# Altium schematic symbol library WE-PD2SA.SchLib: 20 symbols
Pins are listed as number, name and electrical type; pins without a type are passive.

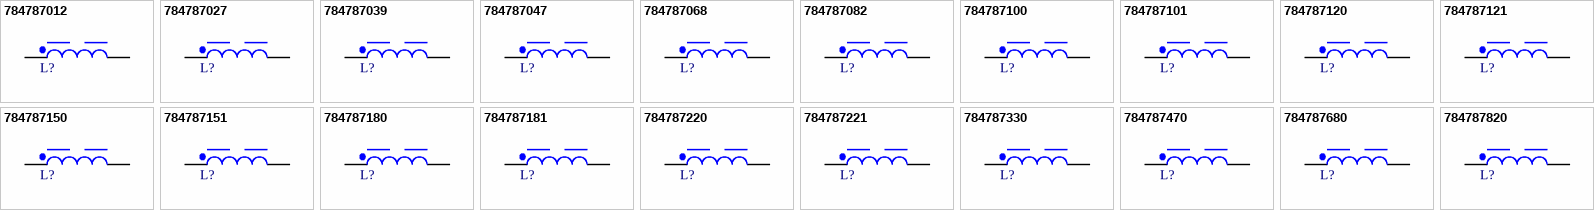
[diagram p0: symbols 784787012 to 784787820]

## 784787012
designator L?, comment 1.2µH  (value not drawn)
WE-PD2SA SMT Power Inductor, size 7850, 1.2µH, 4.85A, 13mΩ; Manufacturer Part Number: 784787012; Manufacturer: Wurth Elektronik; Case/Size Code: 7850; DC Resistance: 8.5mΩ; Saturation Current: 6A; Self Resonant Frequency: 110MHz; Category: Single Coil Power Inductors; Match Code: WE-PD2SA; ComponentLink1Description: Website Link; ComponentLink1URL: https://www.we-online.com/redexpert/article/784787012?ad; ComponentLink2Description: Datasheet Link; ComponentLink2URL: https://www.we-online.com/redexpert/spec/784787012?ad; Mount: Surface Mount; Operating Temperature Max: 150°C; Operating Temperature Min: -50°C; Packaging: Tape and Reel; Length: 7.8mm; Width: 7mm; Height: 5mm; Automotive: Yes; DC Resistance Max: 13mΩ; Inductance: 1.2µH; Rated Current: 4.85A
footprint WE-PD2SA_7850
simulation model 7850_784787012_1.2u
pins: 1, 2

## 784787027
designator L?, comment 2.7µH  (value not drawn)
WE-PD2SA SMT Power Inductor, size 7850, 2.7µH, 4.35A, 17mΩ; Manufacturer Part Number: 784787027; Manufacturer: Wurth Elektronik; Case/Size Code: 7850; DC Resistance: 13.5mΩ; Saturation Current: 4.5A; Self Resonant Frequency: 60MHz; Category: Single Coil Power Inductors; Match Code: WE-PD2SA; ComponentLink1Description: Website Link; ComponentLink1URL: https://www.we-online.com/redexpert/article/784787027?ad; ComponentLink2Description: Datasheet Link; ComponentLink2URL: https://www.we-online.com/redexpert/spec/784787027?ad; Mount: Surface Mount; Operating Temperature Max: 150°C; Operating Temperature Min: -50°C; Packaging: Tape and Reel; Length: 7.8mm; Width: 7mm; Height: 5mm; Automotive: Yes; DC Resistance Max: 17mΩ; Inductance: 2.7µH; Rated Current: 4.35A
footprint WE-PD2SA_7850
simulation model 7850_784787027_2.7u
pins: 1, 2

## 784787039
designator L?, comment 3.9µH  (value not drawn)
WE-PD2SA SMT Power Inductor, size 7850, 3.9µH, 3.8A, 20mΩ; Manufacturer Part Number: 784787039; Manufacturer: Wurth Elektronik; Case/Size Code: 7850; DC Resistance: 16.7mΩ; Saturation Current: 4A; Self Resonant Frequency: 45MHz; Category: Single Coil Power Inductors; Match Code: WE-PD2SA; ComponentLink1Description: Website Link; ComponentLink1URL: https://www.we-online.com/redexpert/article/784787039?ad; ComponentLink2Description: Datasheet Link; ComponentLink2URL: https://www.we-online.com/redexpert/spec/784787039?ad; Mount: Surface Mount; Operating Temperature Max: 150°C; Operating Temperature Min: -50°C; Packaging: Tape and Reel; Length: 7.8mm; Width: 7mm; Height: 5mm; Automotive: Yes; DC Resistance Max: 20mΩ; Inductance: 3.9µH; Rated Current: 3.8A
footprint WE-PD2SA_7850
simulation model 7850_784787039_3.9u
pins: 1, 2

## 784787047
designator L?, comment 4.7µH  (value not drawn)
WE-PD2SA SMT Power Inductor, size 7850, 4.7µH, 3.3A, 29mΩ; Manufacturer Part Number: 784787047; Manufacturer: Wurth Elektronik; Case/Size Code: 7850; DC Resistance: 24.3mΩ; Saturation Current: 3.6A; Self Resonant Frequency: 42MHz; Category: Single Coil Power Inductors; Match Code: WE-PD2SA; ComponentLink1Description: Website Link; ComponentLink1URL: https://www.we-online.com/redexpert/article/784787047?ad; ComponentLink2Description: Datasheet Link; ComponentLink2URL: https://www.we-online.com/redexpert/spec/784787047?ad; Mount: Surface Mount; Operating Temperature Max: 150°C; Operating Temperature Min: -50°C; Packaging: Tape and Reel; Length: 7.8mm; Width: 7mm; Height: 5mm; Automotive: Yes; DC Resistance Max: 29mΩ; Inductance: 4.7µH; Rated Current: 3.3A
footprint WE-PD2SA_7850
simulation model 7850_784787047_4.7u
pins: 1, 2

## 784787068
designator L?, comment 6.8µH  (value not drawn)
WE-PD2SA SMT Power Inductor, size 7850, 6.8µH, 3A, 33mΩ; Manufacturer Part Number: 784787068; Manufacturer: Wurth Elektronik; Case/Size Code: 7850; DC Resistance: 27mΩ; Self Resonant Frequency: 30MHz; Category: Single Coil Power Inductors; Match Code: WE-PD2SA; ComponentLink1Description: Website Link; ComponentLink1URL: https://www.we-online.com/redexpert/article/784787068?ad; ComponentLink2Description: Datasheet Link; ComponentLink2URL: https://www.we-online.com/redexpert/spec/784787068?ad; Mount: Surface Mount; Operating Temperature Max: 150°C; Operating Temperature Min: -50°C; Packaging: Tape and Reel; Length: 7.8mm; Width: 7mm; Height: 5mm; Automotive: Yes; DC Resistance Max: 33mΩ; Inductance: 6.8µH; Rated Current: 3A; Saturation Current: 3A
footprint WE-PD2SA_7850
simulation model 7850_784787068_6.8u
pins: 1, 2

## 784787082
designator L?, comment 8.2µH  (value not drawn)
WE-PD2SA SMT Power Inductor, size 7850, 8.2µH, 2.7A, 39mΩ; Manufacturer Part Number: 784787082; Manufacturer: Wurth Elektronik; Case/Size Code: 7850; DC Resistance: 33mΩ; Saturation Current: 2.8A; Self Resonant Frequency: 28MHz; Category: Single Coil Power Inductors; Match Code: WE-PD2SA; ComponentLink1Description: Website Link; ComponentLink1URL: https://www.we-online.com/redexpert/article/784787082?ad; ComponentLink2Description: Datasheet Link; ComponentLink2URL: https://www.we-online.com/redexpert/spec/784787082?ad; Mount: Surface Mount; Operating Temperature Max: 150°C; Operating Temperature Min: -50°C; Packaging: Tape and Reel; Length: 7.8mm; Width: 7mm; Height: 5mm; Automotive: Yes; DC Resistance Max: 39mΩ; Inductance: 8.2µH; Rated Current: 2.7A
footprint WE-PD2SA_7850
simulation model 7850_784787082_8.2u
pins: 1, 2

## 784787100
designator L?, comment 10µH  (value not drawn)
WE-PD2SA SMT Power Inductor, size 7850, 10µH, 2.6A, 43mΩ; Manufacturer Part Number: 784787100; Manufacturer: Wurth Elektronik; Case/Size Code: 7850; DC Resistance: 36.5mΩ; Self Resonant Frequency: 24MHz; Category: Single Coil Power Inductors; Match Code: WE-PD2SA; ComponentLink1Description: Website Link; ComponentLink1URL: https://www.we-online.com/redexpert/article/784787100?ad; ComponentLink2Description: Datasheet Link; ComponentLink2URL: https://www.we-online.com/redexpert/spec/784787100?ad; Mount: Surface Mount; Operating Temperature Max: 150°C; Operating Temperature Min: -50°C; Packaging: Tape and Reel; Length: 7.8mm; Width: 7mm; Height: 5mm; Automotive: Yes; DC Resistance Max: 43mΩ; Inductance: 10µH; Rated Current: 2.6A; Saturation Current: 2.6A
footprint WE-PD2SA_7850
simulation model 7850_784787100_10u
pins: 1, 2

## 784787101
designator L?, comment 100µH  (value not drawn)
WE-PD2SA SMT Power Inductor, size 7850, 100µH, 0.95A, 467mΩ; Manufacturer Part Number: 784787101; Manufacturer: Wurth Elektronik; Case/Size Code: 7850; DC Resistance: 396mΩ; Saturation Current: 0.87A; Self Resonant Frequency: 5MHz; Category: Single Coil Power Inductors; Match Code: WE-PD2SA; ComponentLink1Description: Website Link; ComponentLink1URL: https://www.we-online.com/redexpert/article/784787101?ad; ComponentLink2Description: Datasheet Link; ComponentLink2URL: https://www.we-online.com/redexpert/spec/784787101?ad; Mount: Surface Mount; Operating Temperature Max: 150°C; Operating Temperature Min: -50°C; Packaging: Tape and Reel; Length: 7.8mm; Width: 7mm; Height: 5mm; Automotive: Yes; DC Resistance Max: 467mΩ; Inductance: 100µH; Rated Current: 0.95A
footprint WE-PD2SA_7850
simulation model 7850_784787101_100u
pins: 1, 2

## 784787120
designator L?, comment 12µH  (value not drawn)
WE-PD2SA SMT Power Inductor, size 7850, 12µH, 2.45A, 52mΩ; Manufacturer Part Number: 784787120; Manufacturer: Wurth Elektronik; Case/Size Code: 7850; DC Resistance: 45mΩ; Saturation Current: 2.4A; Self Resonant Frequency: 20MHz; Category: Single Coil Power Inductors; Match Code: WE-PD2SA; ComponentLink1Description: Website Link; ComponentLink1URL: https://www.we-online.com/redexpert/article/784787120?ad; ComponentLink2Description: Datasheet Link; ComponentLink2URL: https://www.we-online.com/redexpert/spec/784787120?ad; Mount: Surface Mount; Operating Temperature Max: 150°C; Operating Temperature Min: -50°C; Packaging: Tape and Reel; Length: 7.8mm; Width: 7mm; Height: 5mm; Automotive: Yes; DC Resistance Max: 52mΩ; Inductance: 12µH; Rated Current: 2.45A
footprint WE-PD2SA_7850
simulation model 7850_784787120_12u
pins: 1, 2

## 784787121
designator L?, comment 120µH  (value not drawn)
WE-PD2SA SMT Power Inductor, size 7850, 120µH, 0.73A, 643mΩ; Manufacturer Part Number: 784787121; Manufacturer: Wurth Elektronik; Case/Size Code: 7850; DC Resistance: 545mΩ; Saturation Current: 0.8A; Self Resonant Frequency: 4.5MHz; Category: Single Coil Power Inductors; Match Code: WE-PD2SA; ComponentLink1Description: Website Link; ComponentLink1URL: https://www.we-online.com/redexpert/article/784787121?ad; ComponentLink2Description: Datasheet Link; ComponentLink2URL: https://www.we-online.com/redexpert/spec/784787121?ad; Mount: Surface Mount; Operating Temperature Max: 150°C; Operating Temperature Min: -50°C; Packaging: Tape and Reel; Length: 7.8mm; Width: 7mm; Height: 5mm; Automotive: Yes; DC Resistance Max: 643mΩ; Inductance: 120µH; Rated Current: 0.73A
footprint WE-PD2SA_7850
simulation model 7850_784787121_120u
pins: 1, 2

## 784787150
designator L?, comment 15µH  (value not drawn)
WE-PD2SA SMT Power Inductor, size 7850, 15µH, 2.3A, 60mΩ; Manufacturer Part Number: 784787150; Manufacturer: Wurth Elektronik; Case/Size Code: 7850; DC Resistance: 52mΩ; Saturation Current: 2.1A; Self Resonant Frequency: 18MHz; Category: Single Coil Power Inductors; Match Code: WE-PD2SA; ComponentLink1Description: Website Link; ComponentLink1URL: https://www.we-online.com/redexpert/article/784787150?ad; ComponentLink2Description: Datasheet Link; ComponentLink2URL: https://www.we-online.com/redexpert/spec/784787150?ad; Mount: Surface Mount; Operating Temperature Max: 150°C; Operating Temperature Min: -50°C; Packaging: Tape and Reel; Length: 7.8mm; Width: 7mm; Height: 5mm; Automotive: Yes; DC Resistance Max: 60mΩ; Inductance: 15µH; Rated Current: 2.3A
footprint WE-PD2SA_7850
simulation model 7850_784787150_15u
pins: 1, 2

## 784787151
designator L?, comment 150µH  (value not drawn)
WE-PD2SA SMT Power Inductor, size 7850, 150µH, 0.71A, 719mΩ; Manufacturer Part Number: 784787151; Manufacturer: Wurth Elektronik; Case/Size Code: 7850; DC Resistance: 610mΩ; Saturation Current: 0.7A; Self Resonant Frequency: 4MHz; Category: Single Coil Power Inductors; Match Code: WE-PD2SA; ComponentLink1Description: Website Link; ComponentLink1URL: https://www.we-online.com/redexpert/article/784787151?ad; ComponentLink2Description: Datasheet Link; ComponentLink2URL: https://www.we-online.com/redexpert/spec/784787151?ad; Mount: Surface Mount; Operating Temperature Max: 150°C; Operating Temperature Min: -50°C; Packaging: Tape and Reel; Length: 7.8mm; Width: 7mm; Height: 5mm; Automotive: Yes; DC Resistance Max: 719mΩ; Inductance: 150µH; Rated Current: 0.71A
footprint WE-PD2SA_7850
simulation model 7850_784787151_150u
pins: 1, 2

## 784787180
designator L?, comment 18µH  (value not drawn)
WE-PD2SA SMT Power Inductor, size 7850, 18µH, 2.15A, 78mΩ; Manufacturer Part Number: 784787180; Manufacturer: Wurth Elektronik; Case/Size Code: 7850; DC Resistance: 67mΩ; Saturation Current: 1.9A; Self Resonant Frequency: 15MHz; Category: Single Coil Power Inductors; Match Code: WE-PD2SA; ComponentLink1Description: Website Link; ComponentLink1URL: https://www.we-online.com/redexpert/article/784787180?ad; ComponentLink2Description: Datasheet Link; ComponentLink2URL: https://www.we-online.com/redexpert/spec/784787180?ad; Mount: Surface Mount; Operating Temperature Max: 150°C; Operating Temperature Min: -50°C; Packaging: Tape and Reel; Length: 7.8mm; Width: 7mm; Height: 5mm; Automotive: Yes; DC Resistance Max: 78mΩ; Inductance: 18µH; Rated Current: 2.15A
footprint WE-PD2SA_7850
simulation model 7850_784787180_18u
pins: 1, 2

## 784787181
designator L?, comment 180µH  (value not drawn)
WE-PD2SA SMT Power Inductor, size 7850, 180µH, 0.68A, 794mΩ; Manufacturer Part Number: 784787181; Manufacturer: Wurth Elektronik; Case/Size Code: 7850; DC Resistance: 673mΩ; Saturation Current: 0.62A; Self Resonant Frequency: 3.8MHz; Category: Single Coil Power Inductors; Match Code: WE-PD2SA; ComponentLink1Description: Website Link; ComponentLink1URL: https://www.we-online.com/redexpert/article/784787181?ad; ComponentLink2Description: Datasheet Link; ComponentLink2URL: https://www.we-online.com/redexpert/spec/784787181?ad; Mount: Surface Mount; Operating Temperature Max: 150°C; Operating Temperature Min: -50°C; Packaging: Tape and Reel; Length: 7.8mm; Width: 7mm; Height: 5mm; Automotive: Yes; DC Resistance Max: 794mΩ; Inductance: 180µH; Rated Current: 0.68A
footprint WE-PD2SA_7850
simulation model 7850_784787181_180u
pins: 1, 2

## 784787220
designator L?, comment 22µH  (value not drawn)
WE-PD2SA SMT Power Inductor, size 7850, 22µH, 1.83A, 103mΩ; Manufacturer Part Number: 784787220; Manufacturer: Wurth Elektronik; Case/Size Code: 7850; DC Resistance: 88mΩ; Saturation Current: 1.7A; Self Resonant Frequency: 13MHz; Category: Single Coil Power Inductors; Match Code: WE-PD2SA; ComponentLink1Description: Website Link; ComponentLink1URL: https://www.we-online.com/redexpert/article/784787220?ad; ComponentLink2Description: Datasheet Link; ComponentLink2URL: https://www.we-online.com/redexpert/spec/784787220?ad; Mount: Surface Mount; Operating Temperature Max: 150°C; Operating Temperature Min: -50°C; Packaging: Tape and Reel; Length: 7.8mm; Width: 7mm; Height: 5mm; Automotive: Yes; DC Resistance Max: 103mΩ; Inductance: 22µH; Rated Current: 1.83A
footprint WE-PD2SA_7850
simulation model 7850_784787220_22u
pins: 1, 2

## 784787221
designator L?, comment 220µH  (value not drawn)
WE-PD2SA SMT Power Inductor, size 7850, 220µH, 0.67A, 876mΩ; Manufacturer Part Number: 784787221; Manufacturer: Wurth Elektronik; Case/Size Code: 7850; DC Resistance: 743mΩ; Saturation Current: 0.58A; Self Resonant Frequency: 3.5MHz; Category: Single Coil Power Inductors; Match Code: WE-PD2SA; ComponentLink1Description: Website Link; ComponentLink1URL: https://www.we-online.com/redexpert/article/784787221?ad; ComponentLink2Description: Datasheet Link; ComponentLink2URL: https://www.we-online.com/redexpert/spec/784787221?ad; Mount: Surface Mount; Operating Temperature Max: 150°C; Operating Temperature Min: -50°C; Packaging: Tape and Reel; Length: 7.8mm; Width: 7mm; Height: 5mm; Automotive: Yes; DC Resistance Max: 876mΩ; Inductance: 220µH; Rated Current: 0.67A
footprint WE-PD2SA_7850
simulation model 7850_784787221_220u
pins: 1, 2

## 784787330
designator L?, comment 33µH  (value not drawn)
WE-PD2SA SMT Power Inductor, size 7850, 33µH, 1.48A, 161mΩ; Manufacturer Part Number: 784787330; Manufacturer: Wurth Elektronik; Case/Size Code: 7850; DC Resistance: 137mΩ; Saturation Current: 1.3A; Self Resonant Frequency: 10MHz; Category: Single Coil Power Inductors; Match Code: WE-PD2SA; ComponentLink1Description: Website Link; ComponentLink1URL: https://www.we-online.com/redexpert/article/784787330?ad; ComponentLink2Description: Datasheet Link; ComponentLink2URL: https://www.we-online.com/redexpert/spec/784787330?ad; Mount: Surface Mount; Operating Temperature Max: 150°C; Operating Temperature Min: -50°C; Packaging: Tape and Reel; Length: 7.8mm; Width: 7mm; Height: 5mm; Automotive: Yes; DC Resistance Max: 161mΩ; Inductance: 33µH; Rated Current: 1.48A
footprint WE-PD2SA_7850
simulation model 7850_784787330_33u
pins: 1, 2

## 784787470
designator L?, comment 47µH  (value not drawn)
WE-PD2SA SMT Power Inductor, size 7850, 47µH, 1.25A, 243mΩ; Manufacturer Part Number: 784787470; Manufacturer: Wurth Elektronik; Case/Size Code: 7850; DC Resistance: 206mΩ; Saturation Current: 1.15A; Self Resonant Frequency: 8MHz; Category: Single Coil Power Inductors; Match Code: WE-PD2SA; ComponentLink1Description: Website Link; ComponentLink1URL: https://www.we-online.com/redexpert/article/784787470?ad; ComponentLink2Description: Datasheet Link; ComponentLink2URL: https://www.we-online.com/redexpert/spec/784787470?ad; Mount: Surface Mount; Operating Temperature Max: 150°C; Operating Temperature Min: -50°C; Packaging: Tape and Reel; Length: 7.8mm; Width: 7mm; Height: 5mm; Automotive: Yes; DC Resistance Max: 243mΩ; Inductance: 47µH; Rated Current: 1.25A
footprint WE-PD2SA_7850
simulation model 7850_784787470_47u
pins: 1, 2

## 784787680
designator L?, comment 68µH  (value not drawn)
WE-PD2SA SMT Power Inductor, size 7850, 68µH, 1.12A, 290mΩ; Manufacturer Part Number: 784787680; Manufacturer: Wurth Elektronik; Case/Size Code: 7850; DC Resistance: 246mΩ; Saturation Current: 1A; Self Resonant Frequency: 7.5MHz; Category: Single Coil Power Inductors; Match Code: WE-PD2SA; ComponentLink1Description: Website Link; ComponentLink1URL: https://www.we-online.com/redexpert/article/784787680?ad; ComponentLink2Description: Datasheet Link; ComponentLink2URL: https://www.we-online.com/redexpert/spec/784787680?ad; Mount: Surface Mount; Operating Temperature Max: 150°C; Operating Temperature Min: -50°C; Packaging: Tape and Reel; Length: 7.8mm; Width: 7mm; Height: 5mm; Automotive: Yes; DC Resistance Max: 290mΩ; Inductance: 68µH; Rated Current: 1.12A
footprint WE-PD2SA_7850
simulation model 7850_784787680_68u
pins: 1, 2

## 784787820
designator L?, comment 82µH  (value not drawn)
WE-PD2SA SMT Power Inductor, size 7850, 82µH, 1.04A, 328mΩ; Manufacturer Part Number: 784787820; Manufacturer: Wurth Elektronik; Case/Size Code: 7850; DC Resistance: 278mΩ; Saturation Current: 0.9A; Self Resonant Frequency: 6MHz; Category: Single Coil Power Inductors; Match Code: WE-PD2SA; ComponentLink1Description: Website Link; ComponentLink1URL: https://www.we-online.com/redexpert/article/784787820?ad; ComponentLink2Description: Datasheet Link; ComponentLink2URL: https://www.we-online.com/redexpert/spec/784787820?ad; Mount: Surface Mount; Operating Temperature Max: 150°C; Operating Temperature Min: -50°C; Packaging: Tape and Reel; Length: 7.8mm; Width: 7mm; Height: 5mm; Automotive: Yes; DC Resistance Max: 328mΩ; Inductance: 82µH; Rated Current: 1.04A
footprint WE-PD2SA_7850
simulation model 7850_784787820_82u
pins: 1, 2